# Altium schematic symbol library jlcpcb_capacitor_extended.schlib: 2 symbols
Pins are listed as number, name and electrical type; pins without a type are passive.

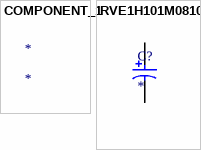
[diagram p0: symbols COMPONENT_1 to RVE1H101M0810]

## COMPONENT_1
designator *

## RVE1H101M0810
designator C?
100uF 50V ±20% SMD,D8xL10.2mm Aluminum Electrolytic Capacitors - SMD ROHS; Manufacturer Part Number: RVE1H101M0810; JLCPCB Part Number: C88679
footprint D8L8
pins: 1, 2